# Altium footprint library con-usb.PcbLib: 5 footprints
Each footprint in its own frame and in the unit in brackets; x right, y up, seen from the top. Pads: shape width x height; smd on the part's side, far side on the other; paste and mask are expansions set on the pad; w line width, h text height; cw(c..) or ccw(c..) is an arc to the next point about the centre after c.
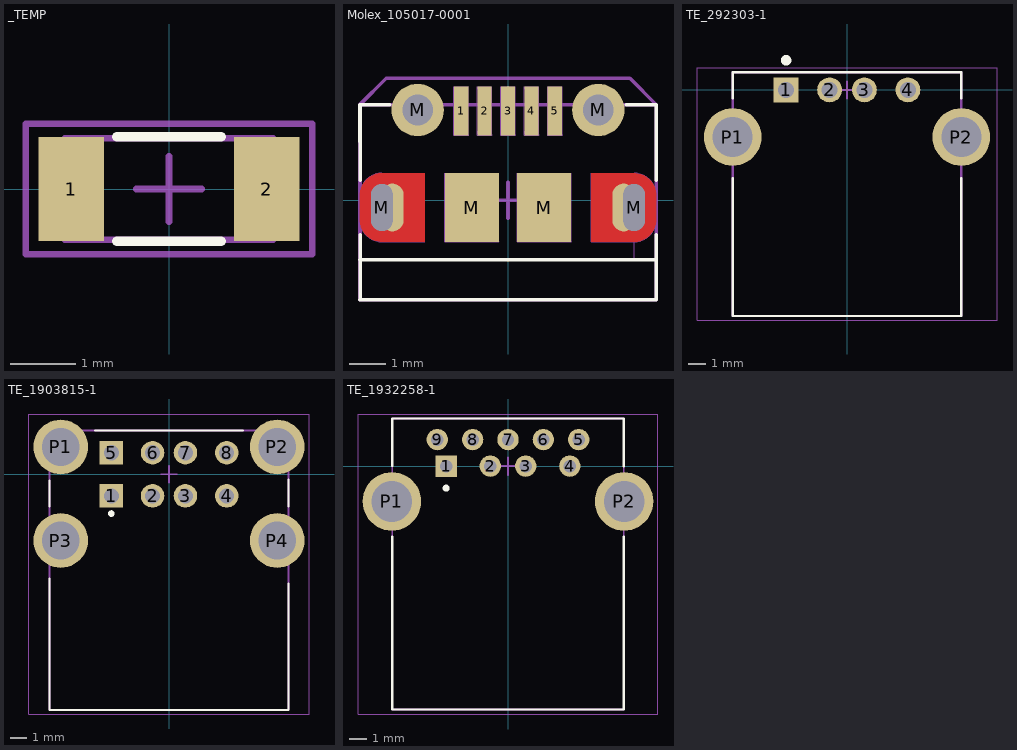
[diagram p0: the footprints below, top view; thin cyan lines are the x and y axes]

## _TEMP [mm]
height 0.6
pads (2):
  rect 1x1.6 smd: 1(-1.5,0) 2(1.5,0)
Top Overlay:
  lines w0.15: -0.8,-0.8 0.8,-0.8 ; -0.8,0.8 0.8,0.8
Top Assembly:
  lines w0.1: -1.6,-0.775 -1.6,0.775 1.6,0.775 1.6,-0.775 -1.6,-0.775
Top Courtyard:
  lines w0.1: -0.5,0 0.5,0 ; 0,-0.5 0,0.5 ; -2.2,-1 2.2,-1 2.2,1 -2.2,1 -2.2,-1
3D body "chip_1206_r.STEP": height 0.47, standoff -0.03, extent -1.65,-0.8 1.55,0.8

## Molex_105017-0001 [mm] "Micro-USB-B"
height 2.5
pads (11):
  rect 0.4x1.35 smd: 1(-1.3,2.475) 2(-0.65,2.475) 3(0,2.475) 4(0.65,2.475) 5(1.3,2.475)
  oval 0.625x1.325 hole 0.6 slot 1.3 at 90 deg copper offset 0.288,0: M(-3.49,-0.2)
  round 1.45 hole 0.85: M(-2.5,2.5) M(2.5,2.5)
  rect 1.5x1.9 smd: M(-1,-0.2) M(1,-0.2)
  oval 0.625x1.325 hole 0.6 slot 1.3 at 90 deg copper offset -0.288,0: M(3.49,-0.2)
Top Layer:
  region: 4.105,0.135 4.105,0.175 4.094,0.255 4.073,0.333 4.042,0.408 4.002,0.477 3.953,0.541 3.896,0.598 3.832,0.647 3.762,0.688 3.688,0.719 3.61,0.739 3.53,0.75 3.49,0.75 2.3,0.75 2.3,-1.15 3.49,-1.15 3.523,-1.15 3.59,-1.143 3.655,-1.128 3.719,-1.107 3.75,-1.092 3.789,-1.074 3.862,-1.026 3.928,-0.969 3.985,-0.902 4.032,-0.829 4.068,-0.749 4.092,-0.665 4.105,-0.579 4.104,-0.535 4.105,-0.535
  region: -4.105,-0.535 -4.105,-0.575 -4.094,-0.655 -4.073,-0.733 -4.042,-0.808 -4.002,-0.877 -3.953,-0.941 -3.896,-0.998 -3.832,-1.047 -3.762,-1.088 -3.688,-1.119 -3.61,-1.139 -3.53,-1.15 -3.49,-1.15 -2.3,-1.15 -2.3,0.75 -3.49,0.75 -3.523,0.75 -3.59,0.743 -3.655,0.728 -3.719,0.707 -3.75,0.692 -3.789,0.674 -3.862,0.626 -3.928,0.569 -3.985,0.502 -4.032,0.429 -4.068,0.349 -4.092,0.265 -4.105,0.179 -4.104,0.135 -4.105,0.135
Bottom Layer:
  region: 4.105,0.135 4.105,0.175 4.094,0.255 4.073,0.333 4.042,0.408 4.002,0.477 3.953,0.541 3.896,0.598 3.832,0.647 3.762,0.688 3.688,0.719 3.61,0.739 3.53,0.75 3.49,0.75 2.3,0.75 2.3,-1.15 3.49,-1.15 3.523,-1.15 3.59,-1.143 3.655,-1.128 3.719,-1.107 3.75,-1.092 3.789,-1.074 3.862,-1.026 3.928,-0.969 3.985,-0.902 4.032,-0.829 4.068,-0.749 4.092,-0.665 4.105,-0.579 4.104,-0.535 4.105,-0.535
  region: -4.105,-0.535 -4.105,-0.575 -4.094,-0.655 -4.073,-0.733 -4.042,-0.808 -4.002,-0.877 -3.953,-0.941 -3.896,-0.998 -3.832,-1.047 -3.762,-1.088 -3.688,-1.119 -3.61,-1.139 -3.53,-1.15 -3.49,-1.15 -2.3,-1.15 -2.3,0.75 -3.49,0.75 -3.523,0.75 -3.59,0.743 -3.655,0.728 -3.719,0.707 -3.75,0.692 -3.789,0.674 -3.862,0.626 -3.928,0.569 -3.985,0.502 -4.032,0.429 -4.068,0.349 -4.092,0.265 -4.105,0.179 -4.104,0.135 -4.105,0.135
Top Overlay:
  lines w0: -4.105,-1.65 -4.1,-1.65
  lines w0.1: -4.105,-1.65 4.105,-1.65 ; -4.097,-2.75 4.103,-2.75 4.105,-0.95 ; -4.094,-2.75 -4.092,-0.95 ; -4.092,0.55 -4.097,2.65 -3.275,2.65 ; 3.278,2.65 4.1,2.65 4.105,0.55
Top Assembly:
  lines w0.1: -4.097,2.65 -4.094,-2.75 4.103,-2.75 4.1,2.65 -4.097,2.65
Top Courtyard:
  lines w0.1: -0.5,0 0.5,0 ; 0,-0.5 0,0.5 ; -4.097,-2.75 4.103,-2.75 4.103,2.647 3.375,3.375 -3.372,3.375 -4.097,2.65 -4.097,-2.75
Draft:
  circle w0.006: c0,0 r0.003
  lines w0: -3.905,-0.2 -3.075,-0.2 ; -3.49,-0.95 -3.49,0.55 ; -2.925,2.5 -2.075,2.5 ; -2.5,2.075 -2.5,2.925 ; -1.75,-1.15 -0.25,0.75 ; -1.75,0.75 -0.25,-1.15 ; -1.5,1.8 -1.1,3.15 ; -1.5,3.15 -1.1,1.8 ; -0.85,1.8 -0.45,3.15 -0.45,1.8 -0.85,3.15 ; -0.2,1.8 0.2,3.15 ; -0.2,3.15 0.2,1.8 ; 0.25,-1.15 1.75,0.75 ; 0.25,0.75 1.75,-1.15 ; 0.45,1.8 0.85,3.15 ; 0.45,3.15 0.85,1.8 ; 1.1,1.8 1.5,3.15 1.1,3.15 1.5,1.8 ; 2.075,2.5 2.925,2.5 ; 2.5,2.075 2.5,2.925 ; 3.075,-0.2 3.905,-0.2 ; 3.49,-0.95 3.49,0.55 ; 3.49,-0.2 3.49,-1.65 3.5,-1.65
  lines w0.013: -4.105,-0.535 ccw(c-3.49,-0.535) -3.75,-1.092 ccw(c-3.49,-0.535) -3.49,-1.15 -2.3,-1.15 -2.3,-0.95 -2.3,-0.65 -2.3,0.75 -3.49,0.75 ccw(c-3.49,0.135) -3.75,0.692 ccw(c-3.49,0.135) -4.105,0.135 -4.105,-0.535 ; -3.905,-0.535 ccw(c-3.49,-0.535) -3.75,-0.858 ccw(c-3.49,-0.535) -3.075,-0.535 -3.075,0.135 ccw(c-3.49,0.135) -3.75,0.458 ccw(c-3.49,0.135) -3.905,0.135 -3.905,-0.535 ; -3.125,2.4 ccw(c-2.6,2.4) -3.123,2.35 ccw(c-2.6,2.4) -2.6,1.875 -2.4,1.875 ccw(c-2.4,2.4) -1.875,2.4 -1.875,2.6 ccw(c-2.4,2.6) -1.877,2.65 ccw(c-2.4,2.6) -2.4,3.125 -2.6,3.125 ccw(c-2.6,2.6) -3.125,2.6 -3.125,2.4 ; -2.925,2.4 ccw(c-2.6,2.4) -2.921,2.35 ccw(c-2.6,2.4) -2.6,2.075 -2.4,2.075 ccw(c-2.4,2.4) -2.075,2.4 -2.075,2.6 ccw(c-2.4,2.6) -2.079,2.65 ccw(c-2.4,2.6) -2.4,2.925 -2.6,2.925 ccw(c-2.6,2.6) -2.925,2.6 -2.925,2.4 ; -1.75,-1.15 -0.25,-1.15 -0.25,0.75 -1.75,0.75 -1.75,-1.15 ; -1.5,1.8 -1.5,2.35 -1.5,2.65 -1.5,3.15 -1.1,3.15 -1.1,2.65 -1.1,1.8 -1.175,1.8 -1.425,1.8 -1.5,1.8 ; -0.85,1.8 -0.85,2.65 -0.85,3.15 -0.45,3.15 -0.45,2.65 -0.45,1.8 -0.85,1.8 ; -0.2,1.8 -0.2,2.65 -0.2,3.15 0.2,3.15 0.2,2.65 0.2,1.8 -0.2,1.8 ; 0.25,-1.15 1.75,-1.15 1.75,0.75 0.25,0.75 0.25,-1.15 ; 0.45,1.8 0.45,2.65 0.45,3.15 0.85,3.15 0.85,2.65 0.85,1.8 0.45,1.8 ; 1.1,1.8 1.1,2.65 1.1,3.15 1.5,3.15 1.5,2.65 1.5,2.35 1.5,1.8 1.425,1.8 1.175,1.8 1.1,1.8 ; 1.875,2.4 ccw(c2.4,2.4) 2.4,1.875 2.6,1.875 ccw(c2.6,2.4) 3.123,2.35 ccw(c2.6,2.4) 3.125,2.4 3.125,2.6 ccw(c2.6,2.6) 2.6,3.125 2.4,3.125 ccw(c2.4,2.6) 1.877,2.65 ccw(c2.4,2.6) 1.875,2.6 1.875,2.4 ; 2.075,2.4 ccw(c2.4,2.4) 2.4,2.075 2.6,2.075 ccw(c2.6,2.4) 2.921,2.35 ccw(c2.6,2.4) 2.925,2.4 2.925,2.6 ccw(c2.6,2.6) 2.6,2.925 2.4,2.925 ccw(c2.4,2.6) 2.079,2.65 ccw(c2.4,2.6) 2.075,2.6 2.075,2.4 ; 2.3,-1.15 3.49,-1.15 ccw(c3.49,-0.535) 3.75,-1.092 ccw(c3.49,-0.535) 4.105,-0.535 4.105,0.135 ccw(c3.49,0.135) 3.75,0.692 ccw(c3.49,0.135) 3.49,0.75 2.3,0.75 2.3,-0.65 2.3,-0.95 2.3,-1.15 ; 3.075,-0.535 ccw(c3.49,-0.535) 3.75,-0.858 ccw(c3.49,-0.535) 3.905,-0.535 3.905,0.135 ccw(c3.49,0.135) 3.75,0.458 ccw(c3.49,0.135) 3.075,0.135 3.075,-0.535
3D body "Molex_105017-0001.stp": height 2.66, standoff -0.64, extent -4.097,-2.75 4.103,2.65

## TE_292303-1 [mm]
pads (6):
  rect 1.428x1.428 hole 0.92: 1(-3.5,0)
  round 1.428 hole 0.92: 2(-1,0) 3(1,0) 4(3.5,0)
  round 3.316 hole 2.3: P1(-6.57,-2.71) P2(6.57,-2.71)
Top Overlay:
  circle w0.3: c-3.5,1.7 r0.15
  lines w0.127: -6.565,-5.08 -6.565,-12.99 6.565,-12.99 6.565,-5.08 ; -6.565,-0.5 -6.565,1.01 6.565,1.01 6.565,-0.5
Top Assembly:
  lines w0.05: -8.62,-13.24 8.62,-13.24 8.62,1.26 -8.62,1.26 -8.62,-13.24
Top Courtyard:
  lines w0.1: -0.5,0 0.5,0 ; 0,-0.5 0,0.5
  lines w0.127: -6.565,-12.99 6.565,-12.99 6.565,1.01 -6.565,1.01 -6.565,-12.99
3D body "292303-1.stp": height 7.77, standoff -3.59, extent -8.116,-12.99 8.116,1.01

## TE_1903815-1 [mm]
pads (12):
  rect 1.428x1.428 hole 0.92: 1(-3.5,-1.31) 5(-3.5,1.31)
  round 1.428 hole 0.92: 2(-1,-1.31) 3(1,-1.31) 4(3.5,-1.31) 6(-1,1.31) 7(1,1.31) 8(3.5,1.31)
  round 3.316 hole 2.3: P1(-6.57,1.66) P2(6.57,1.66) P3(-6.57,-4.02) P4(6.57,-4.02)
Top Overlay:
  circle w0.2: c-3.5,-2.382 r0.1
  lines w0.127: -7.25,-6.34 -7.25,-14.3 7.25,-14.3 7.25,-6.64 ; -7.25,-1.94 -7.25,-0.38 ; -4.5,2.66 4.5,2.66 ; 7.25,-1.94 7.25,-0.31
Top Assembly:
  lines w0.05: -8.5,-14.55 8.5,-14.55 8.5,3.66 -8.5,3.66 -8.5,-14.55
Top Courtyard:
  lines w0.1: -0.5,0 0.5,0 ; 0,-0.5 0,0.5 ; -7.25,-14.3 7.25,-14.3 7.25,2.66 -7.25,2.66 -7.25,-14.3
3D body "1903815-1.stp": height 16.31, standoff -3.61, extent -7.8,-14.31 7.8,2.65

## TE_1932258-1 [mm]
pads (11):
  rect 1.208x1.208 / inner round 1.208 / far side rect 1.208x1.208 hole 0.7: 1(-3.5,0)
  round 1.208 hole 0.7: 2(-1,0) 3(1,0) 4(3.5,0) 5(4,1.5) 6(2,1.5) 7(0,1.5) 8(-2,1.5) 9(-4,1.5)
  round 3.316 hole 2.3: P1(-6.57,-2) P2(6.57,-2)
Top Overlay:
  circle w0.2: c-3.5,-1.25 r0.1
  lines w0.127: -6.55,-3.999 -6.55,-13.78 6.55,-13.78 6.55,-3.999 ; -6.55,0.003 -6.55,2.7 6.55,2.7 6.55,-0.004
Top Assembly:
  lines w0.05: -8.48,-14.03 8.48,-14.03 8.48,2.95 -8.48,2.95 -8.48,-14.03
Top Courtyard:
  lines w0.1: -0.5,0 0.5,0 ; 0,-0.5 0,0.5 ; -6.55,-13.78 -6.55,2.7 6.55,2.7 6.55,-13.78 -6.55,-13.78
3D body "1932258-1.stp": height 7.82, standoff -3.63, extent -8.05,-13.8 8.05,2.68